# Altium schematic symbol library PMOD_KYPD_1.SCHLIB: 2 symbols
Pins are listed as number, name and electrical type; pins without a type are passive.

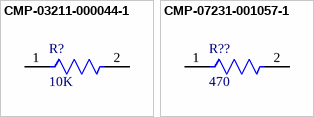
[diagram p0: symbols CMP-03211-000044-1 to CMP-07231-001057-1]

## CMP-03211-000044-1
designator R?, comment 10K
CRGCQ2512 10KΩ 1W ±100ppm/°C 5%200V CRGCQ2512J10K; Manufacturer: TE Connectivity; Tolerance: 0.05; Voltage Rating: 200V; Automotive Grade: Grade 0; Series: CRGCQ; Automotive: Yes; Package: CRGCQ2512; ComponentLink2Description: Datasheet; RoHS: TRUE; Height: 0.65mm; Octopart: https://octopart.com/crgcq2512j10k-te+connectivity-91018617; Description: CRGCQ2512 10KΩ 1W ±100ppm/°C 5%200V; Value: 10KΩ; Category: Res; Temperature Range High: +155°C; Composition: Thick Film; Device Class L1: Passive Components; Power Rating: 1W; Device Class L2: Resistors; Temperature Coefficient: ±100ppm/°C; Lead Free: Yes; Temperature Range Low: -55°C; Temperature: -55°C to +155°C; ComponentLink2URL: https://www.te.com/commerce/DocumentDelivery/DDEController?Action=showdoc&DocId=Data+Sheet%7F1773204-3%7F1%7Fpdf%7FEnglish%7FENG_DS_1773204-3_1.pdf%7F4-2176349-923; Resistance: 10KΩ; Manufacturer Part Number: CRGCQ2512J10K; Device Class L3: Chip SMD Resistors; Ipc Land Pattern Name: RESC635320X55
footprint FP-CRGCQ2512-IPC_C
footprint FP-CRGCQ2512-IPC_B
footprint FP-CRGCQ2512-IPC_A
pins: 1, 2

## CMP-07231-001057-1
designator R??, comment 470
Thick Film Chip Resistors 2512 470Ω 1W 5% 200ppm/°C CR2512-JW-471ELF; Manufacturer: Bourns; Resistance: 470R; Voltage Rating: 200V; Max Power Dissipation: 1W; Package Quantity: 4000; Case/Package: 2512; Width: 3.2mm; Weight: 0.001429oz; Number of Terminations: 2; Height: 0.03inch; Max Operating Temperature: 155°C; Case Code (Metric): 6332; Temperature Coefficient: 200ppm/°C; Termination: SMD/SMT; Min Operating Temperature: -55°C; Packaging: Tape and Reel; Mount: Surface Mount; Tolerance: 5%; Power Rating: 1W; Contact Plating: Tin; Composition: Thick Film; Radiation Hardening: No; Length: 0.248inch; Case Code (Imperial): 2512; Manufacturer Part Number: CR2512-JW-471ELF
footprint FP-CR2512-IPC_C
footprint FP-CR2512-IPC_B
footprint FP-CR2512-IPC_A
footprint FP-CR2512-MFG
pins: 1, 2